# Altium schematic symbol library SFECV10M7KA00-R0.Schlib: 1 symbol
Pins are listed as number, name and electrical type; pins without a type are passive.

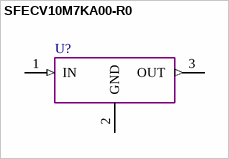
[diagram p0: symbol SFECV10M7KA00-R0]

## SFECV10M7KA00-R0
designator U?  (value not drawn)
U_SFECV10M7KA00-R0
pins: 1 IN (in), 2 GND (power), 3 OUT (out)